# Altium footprint library LED0805SIDE_R.PcbLib: 1 footprints
Each footprint in its own frame and in the unit in brackets; x right, y up, seen from the top. Pads: shape width x height; smd on the part's side, far side on the other; paste and mask are expansions set on the pad; w line width, h text height; cw(c..) or ccw(c..) is an arc to the next point about the centre after c.
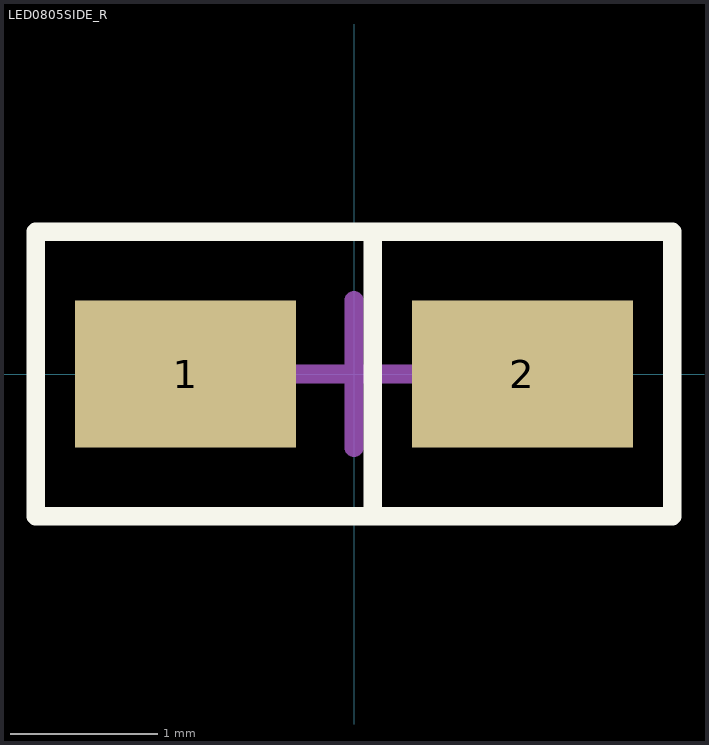
[diagram p0: the footprint, top view; thin cyan lines are the x and y axes]

## LED0805SIDE_R [mm]
height 0.7
pads (2):
  rect 1.5x1 smd: 1(-1.143,0) 2(1.143,0)
Top Overlay:
  lines w0.127: 0.127,-0.965 0.127,0.965 ; -2.159,-0.965 -2.159,0.965 2.159,0.965 2.159,-0.965 -2.159,-0.965
Mechanical 15:
  lines w0.127: -0.5,0 0.5,0 ; 0,-0.5 0,0.5
3D body: height 2, standoff 0, extent -1.5,-0.512 1.5,0.483